# Altium schematic symbol library LM2596S_5.0_1.SCHLIB: 7 symbols
Pins are listed as number, name and electrical type; pins without a type are passive.

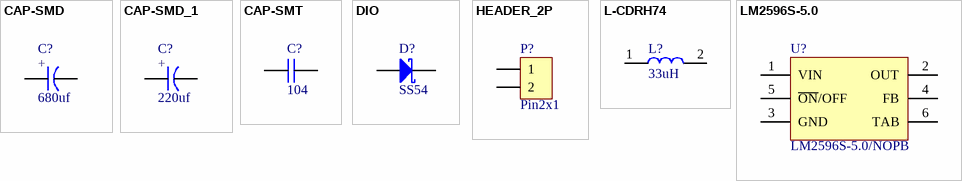
[diagram p0: symbols CAP-SMD to LM2596S-5.0]

## CAP-SMD
designator C?, comment 680uf
CAP-SMD; Supplier 1: Arrow Electronics
footprint CAP-SMD-B
footprint CAP-SMD-D
footprint CAP-SMD-E
footprint CAP-SMD-G
footprint CASMD-H
pins: 1, 2
text: +

## CAP-SMD_1
designator C?, comment 220uf
CAP-SMD; Supplier 1: Arrow Electronics
footprint CAP-SMD-B
footprint CAP-SMD-D
footprint CAP-SMD-E
footprint CAP-SMD-G
footprint CASMD-H
pins: 1, 2
text: +

## CAP-SMT
designator C?, comment 104
footprint 0603C
pins: 1, 2

## DIO
designator D?, comment SS54
footprint SMC (DO-214AB(2114))
pins: 1, 2

## HEADER_2P
designator P?, comment Pin2x1
footprint 5.08A-2PIN
pins: 1, 2

## L-CDRH74
designator L?, comment 33uH
footprint CDRH74 (7.3*7.3*4.5mm（长宽高）)
pins: 1, 2

## LM2596S-5.0
designator U?, comment LM2596S-5.0/NOPB
SIMPLE SWITCHER® Power Converter 150 KHz 3A Step-Down Voltage Regulator, 5-pin TO-263, Pb-Free; Manufacturer: Texas Instruments; PowerWise: N; PackageTopMarking: NSUZXYTTE#*LM2596S*-5.0 P+; ComponentLink1URL: http://www.ti.com/general/docs/lit/getliterature.tsp?genericPartNumber=LM2596&fileType=pdf; PackageDescription: TO-263, Molded, .400 x .390 x .180in, 5 Lead, .067in Pitch, Surface Mount; RoHS: Y; PinCount: 5; Code_JEDEC: MO-169-AB; ComponentLink1Description: Datasheet URL; PackageReference: KTT0005B; CompType: Switcher
footprint TO263-5A (263，5脚晶体管)
footprint KTT0005B_N (DPAK, 5-Leads, Body 10.65x9.65mm, Pitch 1.7mm, IPC Medium Density)
pins: 1 VIN (power), 2 OUT (power), 3 GND (power), 4 FB, 5 ~{ON}/OFF, 6 TAB (power)